# Altium footprint library BH3.5-2P.PcbLib: 1 footprints
Each footprint in its own frame and in the unit in brackets; x right, y up, seen from the top. Pads: shape width x height; smd on the part's side, far side on the other; paste and mask are expansions set on the pad; w line width, h text height; cw(c..) or ccw(c..) is an arc to the next point about the centre after c.
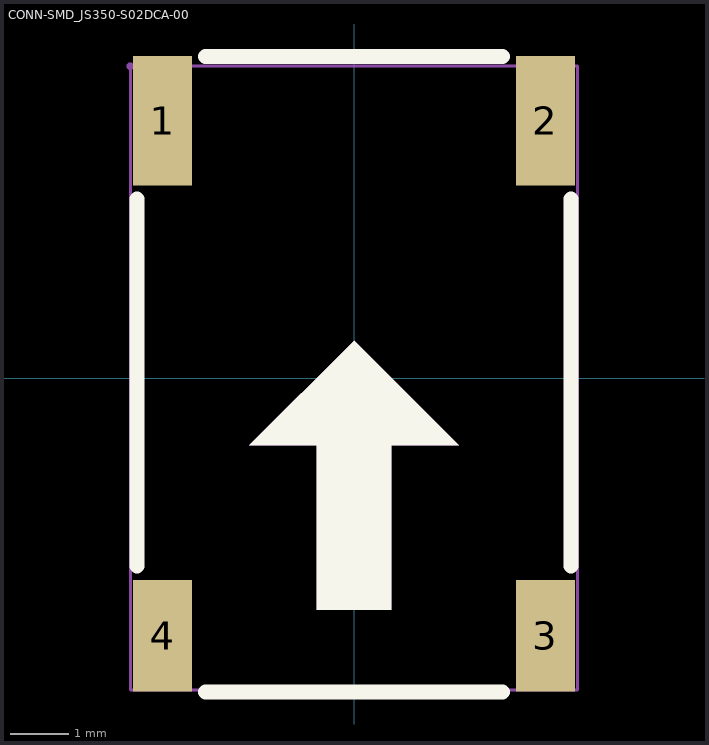
[diagram p0: the footprint, top view; thin cyan lines are the x and y axes]

## CONN-SMD_JS350-S02DCA-00 [mm]
pads (4):
  rect 1x2.2 smd paste+0 mask+0.05: 1(-3.25,4.375) 2(3.25,4.375)
  rect 1x1.9 smd paste+0 mask+0.05: 3(3.25,-4.375) 4(-3.25,-4.375)
Top Overlay:
  region: 0.635,-3.937 -0.635,-3.937 -0.635,-1.143 -1.778,-1.143 0,0.635 1.778,-1.143 0.635,-1.143
  lines w0.254: -3.683,-3.194 -3.683,3.044 ; -2.519,-5.334 2.519,-5.334 ; -2.519,5.461 2.519,5.461 ; 3.683,-3.194 3.683,3.044
Mechanical 6:
  region: 0.635,-3.937 -0.635,-3.937 -0.635,-1.143 -1.778,-1.143 0,0.635 1.778,-1.143 0.635,-1.143
Mechanical 15:
  region: -3.35,-4.1 -3.15,-4.1 -3.15,-5.3 -3.35,-5.3
  region: 3.15,-4.1 3.35,-4.1 3.35,-5.3 3.15,-5.3
  region: 3,5.3 3.5,5.3 3.5,3.8 3,3.8
  region: -3.5,5.3 -3,5.3 -3,3.8 -3.5,3.8
  region: -3.74,5.3 -3.74,5.325 -3.775,5.36 -3.825,5.36 -3.86,5.325 -3.86,5.3 -3.86,5.275 -3.825,5.24 -3.775,5.24 -3.74,5.275 -3.74,5.3
  lines w0.051: -3.8,-5.3 -3.8,5.3 3.8,5.3 3.8,-5.3 -3.8,-5.3